# Altium integrated library FG18C0G2A220JNT06.IntLib: 1 symbol
Pins are listed as number, name and electrical type; pins without a type are passive.

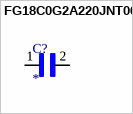
[diagram p0: symbol FG18C0G2A220JNT06]

## FG18C0G2A220JNT06
designator C?
Cap Ceramic 22pF 100V C0G 5% Radial 2.5mm 125Â°C Ammo; MP: FG18C0G2A220JNT06; MF: TDK; Purchase-URL: https://pricing.snapeda.com/search/part/FG18C0G2A220JNT06/?ref=eda; Value: *; Check_prices: https://www.snapeda.com/parts/FG18C0G2A220JNT06/TDK/view-part/?ref=eda; Package: Radial TDK Corporation; SnapEDA_Link: https://www.snapeda.com/parts/FG18C0G2A220JNT06/TDK/view-part/?ref=snap; Digi-Key_Part_Number: 445-173230-1-ND
footprint CAPRB250W50L400T250H550
pins: 1, 2